# EAGLE library part AT42QT2120 (library appfruits)
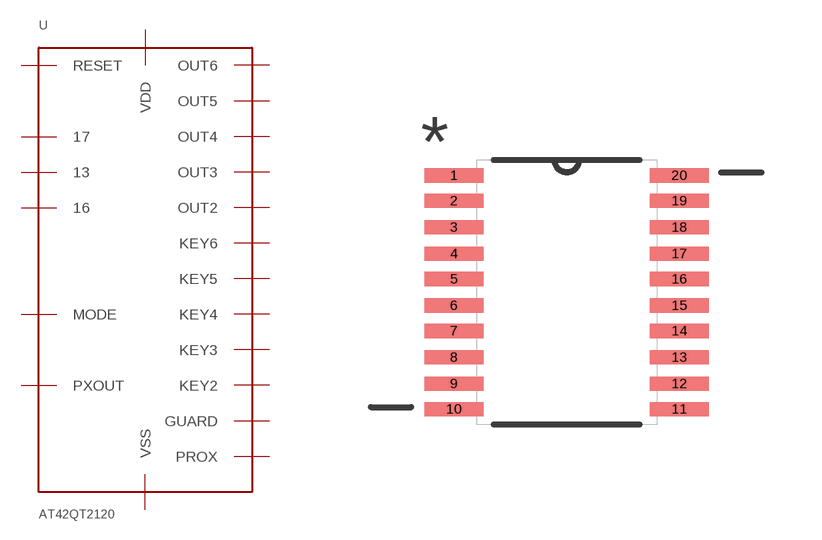
[diagram p4: symbol with the pads of QT2120; footprint QT2120]

Designator prefix U

## AT42QT2120STANDALONE-MODE (MF: Atmel; MPN: AT42QT2120-XU)  [QT2120]
1  OUT3
2  OUT2
3  KEY6
4  KEY5
5  KEY4
6  KEY3
7  KEY2
8  GUARD
9  PROX
10  VSS
11  VDD
12  MODE
13  13
14  RESET
15  PXOUT
16  16
17  17
18  OUT6
19  OUT5
20  OUT4

## Footprint QT2120 (pad centres in mm)
Atmel AT48QT2120 Touch Sensor in TSSOP-20 Package
smd 1.473 x 0.356: 1 -2.819,2.921; 2 -2.819,2.286; 3 -2.819,1.626; 4 -2.819,0.965; 5 -2.819,0.33; 6 -2.819,-0.33; 7 -2.819,-0.965; 8 -2.819,-1.626; 9 -2.819,-2.286; 10 -2.819,-2.921; 11 2.819,-2.921; 12 2.819,-2.286; 13 2.819,-1.626; 14 2.819,-0.965; 15 2.819,-0.33; 16 2.819,0.33; 17 2.819,0.965; 18 2.819,1.626; 19 2.819,2.286; 20 2.819,2.921